# Altium schematic symbol library BZT52C5V6T.SchLib: 1 symbol
Pins are listed as number, name and electrical type; pins without a type are passive.

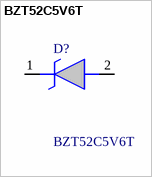
[diagram p0: symbol BZT52C5V6T]

## BZT52C5V6T
designator D?
Zener Diode 5.6 V 200 mW +/-7% Surface Mount SOD-523; Manufacturer_Name: MCC; Geometry.Height: 0.7mm; Manufacturer_Part_Number: BZT52C5V6T; Mouser Part Number: *; Mouser Price/Stock: *; Arrow Part Number: *; Arrow Price/Stock: *; Datasheet Link: https://www.mccsemi.com/pdf/Products/BZT52C(B)2V4T-BZT52C(B)39T(SOD-523).pdf
footprint SODFL1608X70N
pins: 1 K, 2 A